# Altium schematic symbol library Cap_Murata_GJM1555C1H200GB01D_20pF.SchLib: 1 symbol
Pins are listed as number, name and electrical type; pins without a type are passive.

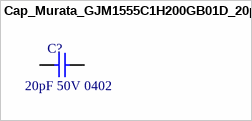
[diagram p0: symbol Cap_Murata_GJM1555C1H200GB01D_20pF]

## Cap_Murata_GJM1555C1H200GB01D_20pF
designator C?  Capacitance: 20pF 50V 0402  (hidden comment: Cap_Murata_GJM1555C1H200GB01D_20pF)
Multilayer Ceramic Capacitors MLCC - SMD/SMT 0402 20pF 50Volts C0G 2%; Supplier 1: Mouser; Supplier Part Number 1: 81-GJM1555C1H200GB01
footprint Cap_Murata_GJM1555C1H200GB01D_20pF
pins: 1, 2